# Altium footprint library BMM150.PcbLib: 1 footprints
Each footprint in its own frame and in the unit in brackets; x right, y up, seen from the top. Pads: shape width x height; smd on the part's side, far side on the other; paste and mask are expansions set on the pad; w line width, h text height; cw(c..) or ccw(c..) is an arc to the next point about the centre after c.
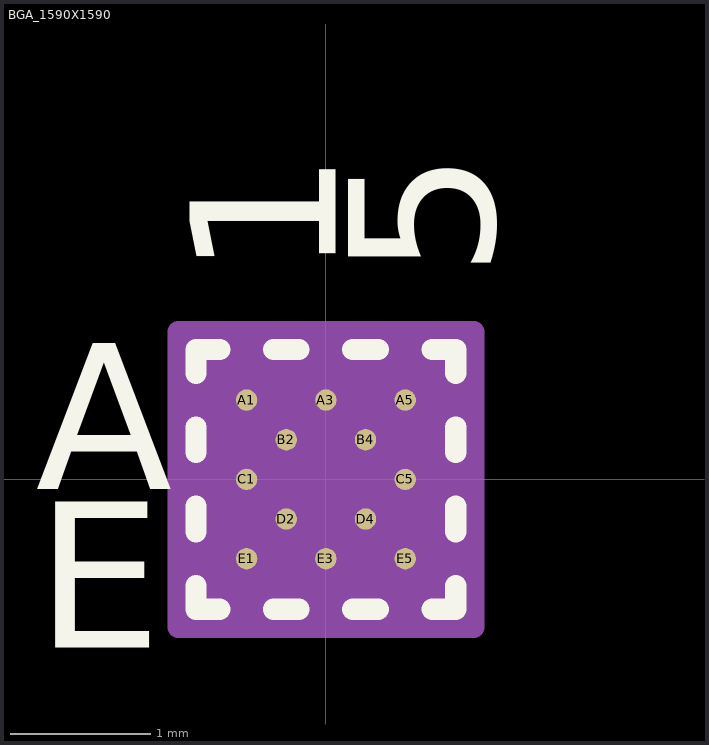
[diagram p0: the footprint, top view; thin cyan lines are the x and y axes]

## BGA_1590X1590 [mil]
pads (12):
  round 6 smd paste+0 mask+0: A1(-22.28,22.28) A3(0,22.28) A5(22.28,22.28) B2(-11.14,11.14) B4(11.14,11.14) C1(-22.28,0) C5(22.28,0) D2(-11.14,-11.14) D4(11.14,-11.14) E1(-22.28,-22.28) E3(0,-22.28) E5(22.28,-22.28)
Top Overlay:
  lines w6: -36.5,-29.84 -36.5,-36.5 -29.84,-36.5 ; -36.5,-14.73 -36.5,-7.56 ; -36.5,7.56 -36.5,14.73 ; -36.5,29.84 -36.5,36.5 -29.84,36.5 ; -14.73,-36.5 -7.56,-36.5 ; -14.73,36.5 -7.56,36.5 ; 7.56,-36.5 14.73,-36.5 ; 7.56,36.5 14.73,36.5 ; 29.84,-36.5 36.5,-36.5 36.5,-29.84 ; 29.84,36.5 36.5,36.5 36.5,29.84 ; 36.5,-14.73 36.5,-7.56 ; 36.5,7.56 36.5,14.73
  text "A" at -81.5,-2.72 h50
  text "E" at -81.5,-47.28 h50
  text "1" at 2.72,56.5 h50
  text "5" at 47.28,56.5 h50
Bottom Overlay:
  text "A" at -56.5,-2.72 h50
  text "E" at -56.5,-47.28 h50
  text "1" at -47.28,56.5 h50
  text "5" at -2.72,56.5 h50
Mechanical 13:
  lines w1: -31.5,25.93 -25.93,31.5 ; -31.5,-31.5 31.5,-31.5 31.5,31.5 -31.5,31.5 -31.5,-31.5
  text "A" at -81.5,-2.72 h50
  text "E" at -81.5,-47.28 h50
  text "1" at 2.72,56.5 h50
  text "5" at 47.28,56.5 h50
Mechanical 15:
  region: 41.5,-41.5 -41.5,-41.5 -41.5,41.5 41.5,41.5
  lines w6: -41.5,-41.5 -41.5,41.5 41.5,41.5 41.5,-41.5 -41.5,-41.5
3D body: height 23.11, standoff 0, extent -31.49,-31.49 31.5,31.5